# Altium schematic symbol library fillcap_lib.SchLib: 4 symbols
Pins are listed as number, name and electrical type; pins without a type are passive.

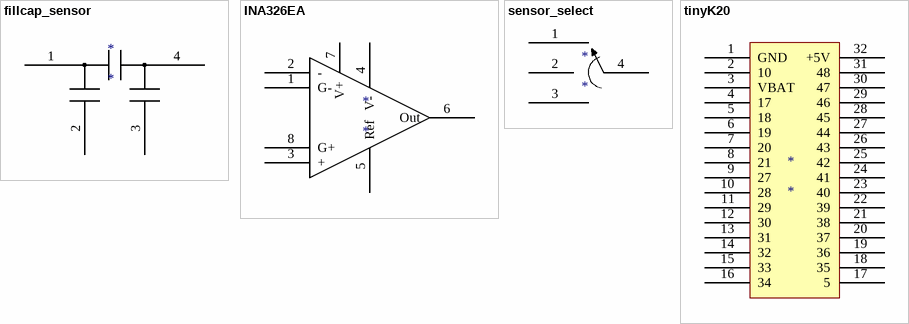
[diagram p0: symbols fillcap_sensor to tinyK20]

## fillcap_sensor
designator *
footprint fillcap_sensor_ext
footprint fillcap_sensor_large
footprint fillcap_sensor_small
pins: 1, 2, 3, 4

## INA326EA
designator *
footprint VSSOP8(0.65mm)
pins: 1 G-, 2 -, 3 +, 4 V-, 5 Ref, 6 Out, 7 V+, 8 G+

## sensor_select
designator *
footprint sens_select_jumper
pins: 1, 2, 3, 4

## tinyK20
designator *
footprint tinyK20_cut
footprint tinyK20_cut_mount
footprint tinyK20_full
footprint tinyK20_full_mount
pins: 1 GND, 2 10, 3 VBAT, 4 17, 5 18, 6 19, 7 20, 8 21, 9 27, 10 28, 11 29, 12 30, 13 31, 14 32, 15 33, 16 34, 17 5, 18 35, 19 36, 20 37, 21 38, 22 39, 23 40, 24 41, 25 42, 26 43, 27 44, 28 45, 29 46, 30 47, 31 48, 32 +5V